# Altium footprint library MICROPROCESSADORES.PcbLib: 1 footprints
Each footprint in its own frame and in the unit in brackets; x right, y up, seen from the top. Pads: shape width x height; smd on the part's side, far side on the other; paste and mask are expansions set on the pad; w line width, h text height; cw(c..) or ccw(c..) is an arc to the next point about the centre after c.
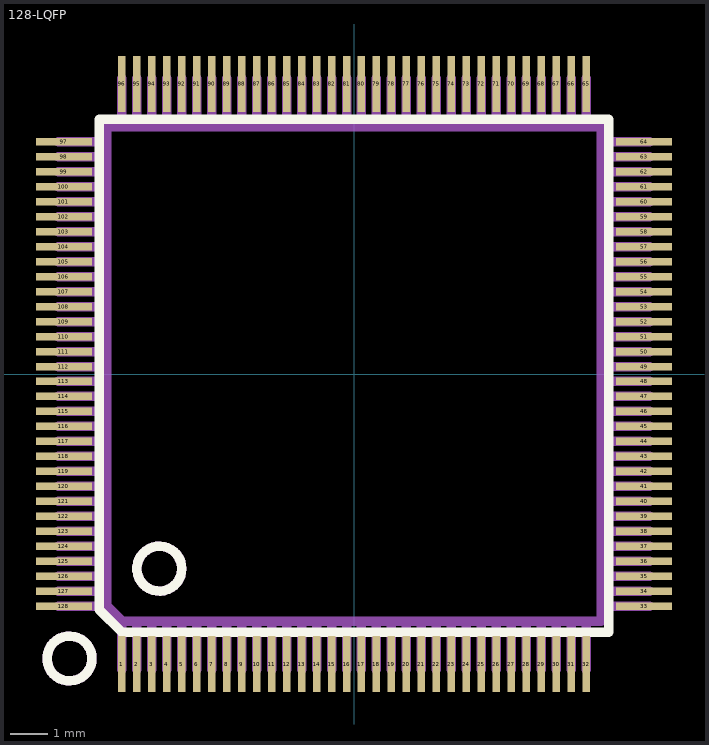
[diagram p0: the footprint, top view; thin cyan lines are the x and y axes]

## 128-LQFP [mm] "128-LQFP (14x14)"
pads (128):
  rect 0.2x1.5 smd: 1(-6.2,-7.75) 2(-5.8,-7.75) 3(-5.4,-7.75) 4(-5,-7.75) 5(-4.6,-7.75) 6(-4.2,-7.75) 7(-3.8,-7.75) 8(-3.4,-7.75) 9(-3,-7.75) 10(-2.6,-7.75) 11(-2.2,-7.75) 12(-1.8,-7.75) 13(-1.4,-7.75) 14(-1,-7.75) 15(-0.6,-7.75) 16(-0.2,-7.75) 17(0.2,-7.75) 18(0.6,-7.75) 19(1,-7.75) 20(1.4,-7.75) 21(1.8,-7.75) 22(2.2,-7.75) 23(2.6,-7.75) 24(3,-7.75) 25(3.4,-7.75) 26(3.8,-7.75) 27(4.2,-7.75) 28(4.6,-7.75) 29(5,-7.75) 30(5.4,-7.75) 31(5.8,-7.75) 32(6.2,-7.75) 65(6.2,7.75) 66(5.8,7.75) 67(5.4,7.75) 68(5,7.75) 69(4.6,7.75) 70(4.2,7.75) 71(3.8,7.75) 72(3.4,7.75) 73(3,7.75) 74(2.6,7.75) 75(2.2,7.75) 76(1.8,7.75) 77(1.4,7.75) 78(1,7.75) 79(0.6,7.75) 80(0.2,7.75) 81(-0.2,7.75) 82(-0.6,7.75) 83(-1,7.75) 84(-1.4,7.75) 85(-1.8,7.75) 86(-2.2,7.75) 87(-2.6,7.75) 88(-3,7.75) 89(-3.4,7.75) 90(-3.8,7.75) 91(-4.2,7.75) 92(-4.6,7.75) 93(-5,7.75) 94(-5.4,7.75) 95(-5.8,7.75) 96(-6.2,7.75)
  rect 1.5x0.2 smd: 33(7.75,-6.2) 34(7.75,-5.8) 35(7.75,-5.4) 36(7.75,-5) 37(7.75,-4.6) 38(7.75,-4.2) 39(7.75,-3.8) 40(7.75,-3.4) 41(7.75,-3) 42(7.75,-2.6) 43(7.75,-2.2) 44(7.75,-1.8) 45(7.75,-1.4) 46(7.75,-1) 47(7.75,-0.6) 48(7.75,-0.2) 49(7.75,0.2) 50(7.75,0.6) 51(7.75,1) 52(7.75,1.4) 53(7.75,1.8) 54(7.75,2.2) 55(7.75,2.6) 56(7.75,3) 57(7.75,3.4) 58(7.75,3.8) 59(7.75,4.2) 60(7.75,4.6) 61(7.75,5) 62(7.75,5.4) 63(7.75,5.8) 64(7.75,6.2) 97(-7.75,6.2) 98(-7.75,5.8) 99(-7.75,5.4) 100(-7.75,5) 101(-7.75,4.6) 102(-7.75,4.2) 103(-7.75,3.8) 104(-7.75,3.4) 105(-7.75,3) 106(-7.75,2.6) 107(-7.75,2.2) 108(-7.75,1.8) 109(-7.75,1.4) 110(-7.75,1) 111(-7.75,0.6) 112(-7.75,0.2) 113(-7.75,-0.2) 114(-7.75,-0.6) 115(-7.75,-1) 116(-7.75,-1.4) 117(-7.75,-1.8) 118(-7.75,-2.2) 119(-7.75,-2.6) 120(-7.75,-3) 121(-7.75,-3.4) 122(-7.75,-3.8) 123(-7.75,-4.2) 124(-7.75,-4.6) 125(-7.75,-5) 126(-7.75,-5.4) 127(-7.75,-5.8) 128(-7.75,-6.2)
Top Overlay:
  circle w0.254: c-5.2,-5.2 r0.6
  circle w0.254: c-7.6,-7.6 r0.6
  lines w0.254: -6.8,-6.3 -6.2,-6.9 6.8,-6.9 6.8,6.8 -6.8,6.8 -6.8,-6.3
Mechanical 3:
  lines w0.254: -7.9,-6.2 -6.6,-6.2 ; -7.9,-5.8 -6.6,-5.8 ; -7.9,-5.4 -6.6,-5.4 ; -7.9,-5 -6.6,-5 ; -7.9,-4.6 -6.6,-4.6 ; -7.9,-4.2 -6.6,-4.2 ; -7.9,-3.8 -6.6,-3.8 ; -7.9,-3.4 -6.6,-3.4 ; -7.9,-3 -6.6,-3 ; -7.9,-2.6 -6.6,-2.6 ; -7.9,-2.2 -6.6,-2.2 ; -7.9,-1.8 -6.6,-1.8 ; -7.9,-1.4 -6.6,-1.4 ; -7.9,-1 -6.6,-1 ; -7.9,-0.6 -6.6,-0.6 ; -7.9,-0.2 -6.6,-0.2 ; -7.9,0.2 -6.6,0.2 ; -7.9,0.6 -6.6,0.6 ; -7.9,1 -6.6,1 ; -7.9,1.4 -6.6,1.4 ; -7.9,1.8 -6.6,1.8 ; -7.9,2.2 -6.6,2.2 ; -7.9,2.6 -6.6,2.6 ; -7.9,3 -6.6,3 ; -7.9,3.4 -6.6,3.4 ; -7.9,3.8 -6.6,3.8 ; -7.9,4.2 -6.6,4.2 ; -7.9,4.6 -6.6,4.6 ; -7.9,5 -6.6,5 ; -7.9,5.4 -6.6,5.4 ; -7.9,5.8 -6.6,5.8 ; -7.9,6.2 -6.6,6.2 ; -6.2,-7.9 -6.2,-6.6 ; -6.2,6.6 -6.2,7.9 ; -5.8,-7.9 -5.8,-6.6 ; -5.8,6.6 -5.8,7.9 ; -5.4,-7.9 -5.4,-6.6 ; -5.4,6.6 -5.4,7.9 ; -5,-7.9 -5,-6.6 ; -5,6.6 -5,7.9 ; -4.6,-7.9 -4.6,-6.6 ; -4.6,6.6 -4.6,7.9 ; -4.2,-7.9 -4.2,-6.6 ; -4.2,6.6 -4.2,7.9 ; -3.8,-7.9 -3.8,-6.6 ; -3.8,6.6 -3.8,7.9 ; -3.4,-7.9 -3.4,-6.6 ; -3.4,6.6 -3.4,7.9 ; -3,-7.9 -3,-6.6 ; -3,6.6 -3,7.9 ; -2.6,-7.9 -2.6,-6.6 ; -2.6,6.6 -2.6,7.9 ; -2.2,-7.9 -2.2,-6.6 ; -2.2,6.6 -2.2,7.9 ; -1.8,-7.9 -1.8,-6.6 ; -1.8,6.6 -1.8,7.9 ; -1.4,-7.9 -1.4,-6.6 ; -1.4,6.6 -1.4,7.9 ; -1,-7.9 -1,-6.6 ; -1,6.6 -1,7.9 ; -0.6,-7.9 -0.6,-6.6 ; -0.6,6.6 -0.6,7.9 ; -0.2,-7.9 -0.2,-6.6 ; -0.2,6.6 -0.2,7.9 ; 0.2,-7.9 0.2,-6.6 ; 0.2,6.6 0.2,7.9 ; 0.6,-7.9 0.6,-6.6 ; 0.6,6.6 0.6,7.9 ; 1,-7.9 1,-6.6 ; 1,6.6 1,7.9 ; 1.4,-7.9 1.4,-6.6 ; 1.4,6.6 1.4,7.9 ; 1.8,-7.9 1.8,-6.6 ; 1.8,6.6 1.8,7.9 ; 2.2,-7.9 2.2,-6.6 ; 2.2,6.6 2.2,7.9 ; 2.6,-7.9 2.6,-6.6 ; 2.6,6.6 2.6,7.9 ; 3,-7.9 3,-6.6 ; 3,6.6 3,7.9 ; 3.4,-7.9 3.4,-6.6 ; 3.4,6.6 3.4,7.9 ; 3.8,-7.9 3.8,-6.6 ; 3.8,6.6 3.8,7.9 ; 4.2,-7.9 4.2,-6.6 ; 4.2,6.6 4.2,7.9 ; 4.6,-7.9 4.6,-6.6 ; 4.6,6.6 4.6,7.9 ; 5,-7.9 5,-6.6 ; 5,6.6 5,7.9 ; 5.4,-7.9 5.4,-6.6 ; 5.4,6.6 5.4,7.9 ; 5.8,-7.9 5.8,-6.6 ; 5.8,6.6 5.8,7.9 ; 6.2,-7.9 6.2,-6.6 ; 6.2,6.6 6.2,7.9 ; 6.6,-6.2 7.9,-6.2 ; 6.6,-5.8 7.9,-5.8 ; 6.6,-5.4 7.9,-5.4 ; 6.6,-5 7.9,-5 ; 6.6,-4.6 7.9,-4.6 ; 6.6,-4.2 7.9,-4.2 ; 6.6,-3.8 7.9,-3.8 ; 6.6,-3.4 7.9,-3.4 ; 6.6,-3 7.9,-3 ; 6.6,-2.6 7.9,-2.6 ; 6.6,-2.2 7.9,-2.2 ; 6.6,-1.8 7.9,-1.8 ; 6.6,-1.4 7.9,-1.4 ; 6.6,-1 7.9,-1 ; 6.6,-0.6 7.9,-0.6 ; 6.6,-0.2 7.9,-0.2 ; 6.6,0.2 7.9,0.2 ; 6.6,0.6 7.9,0.6 ; 6.6,1 7.9,1 ; 6.6,1.4 7.9,1.4 ; 6.6,1.8 7.9,1.8 ; 6.6,2.2 7.9,2.2 ; 6.6,2.6 7.9,2.6 ; 6.6,3 7.9,3 ; 6.6,3.4 7.9,3.4 ; 6.6,3.8 7.9,3.8 ; 6.6,4.2 7.9,4.2 ; 6.6,4.6 7.9,4.6 ; 6.6,5 7.9,5 ; 6.6,5.4 7.9,5.4 ; 6.6,5.8 7.9,5.8 ; 6.6,6.2 7.9,6.2
Mechanical 7:
  circle w0.254: c-7.6,-7.6 r0.6
  circle w0.254: c-5.2,-5.2 r0.6
  lines w0.254: -6.6,-6.2 -6.6,6.6 6.6,6.6 6.6,-6.6 -6.2,-6.6 -6.6,-6.2
3D body "User Library-LQFP128_04.STEP": height 1.6, standoff 0, extent -8,-8 8,8
3D body: height 14.5, standoff -14.5, extent -6.2,-6.5 -6.2,-6.5